# Altium schematic symbol library CMWX1ZZABZ-078.SchLib: 1 symbol
Pins are listed as number, name and electrical type; pins without a type are passive.

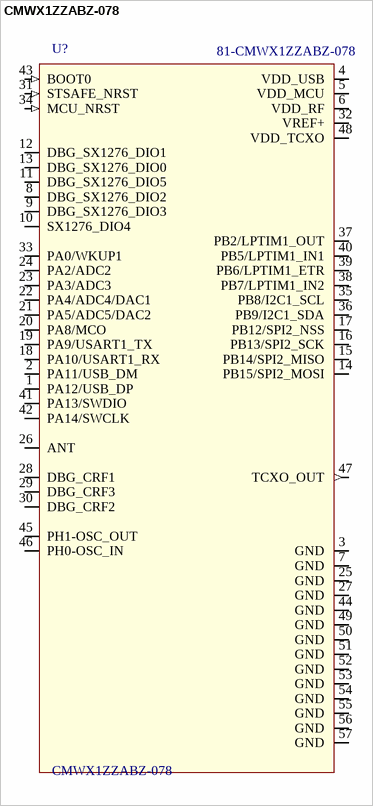
[diagram p0: symbol CMWX1ZZABZ-078]

## CMWX1ZZABZ-078
designator U?  Supplier Part Number 1: 81-CMWX1ZZABZ-078
RF MODULE 860-930MHz 12.5x11.6x1.76mm 3.3Vdc; MF: Murata; Package: Module Murata; Availability: Good; Price: 13.26 USD; MP: CMWX1ZZABZ-078; Value: *; Supplier 1: Mouser
footprint XCVR_CMWX1ZZABZ-078
pins: 1 PA12/USB_DP (io), 2 PA11/USB_DM (io), 3 GND (power), 4 VDD_USB (power), 5 VDD_MCU (power), 6 VDD_RF (power), 7 GND (power), 8 DBG_SX1276_DIO2 (io), 9 DBG_SX1276_DIO3 (io), 10 SX1276_DIO4 (io), 11 DBG_SX1276_DIO5 (io), 12 DBG_SX1276_DIO1 (io), 13 DBG_SX1276_DIO0 (io), 14 PB15/SPI2_MOSI (io), 15 PB14/SPI2_MISO (io), 16 PB13/SPI2_SCK (io), 17 PB12/SPI2_NSS (io), 18 PA10/USART1_RX (io), 19 PA9/USART1_TX (io), 20 PA8/MCO (io), 21 PA5/ADC5/DAC2 (io), 22 PA4/ADC4/DAC1 (io), 23 PA3/ADC3 (io), 24 PA2/ADC2 (io), 25 GND (power), 26 ANT (io), 27 GND (power), 28 DBG_CRF1 (io), 29 DBG_CRF3 (io), 30 DBG_CRF2 (io), 31 STSAFE_NRST (in), 32 VREF+ (power), 33 PA0/WKUP1 (io), 34 MCU_NRST (in), 35 PB8/I2C1_SCL (io), 36 PB9/I2C1_SDA (io), 37 PB2/LPTIM1_OUT (io), 38 PB7/LPTIM1_IN2 (io), 39 PB6/LPTIM1_ETR (io), 40 PB5/LPTIM1_IN1 (io), 41 PA13/SWDIO (io), 42 PA14/SWCLK (io), 43 BOOT0 (in), 44 GND (power), 45 PH1-OSC_OUT (io), 46 PH0-OSC_IN (io), 47 TCXO_OUT (out), 48 VDD_TCXO (power), 49 GND (power), 50 GND (power), 51 GND (power), 52 GND (power), 53 GND (power), 54 GND (power), 55 GND (power), 56 GND (power), 57 GND (power)